# EAGLE library part LOG114 (library my-ti)
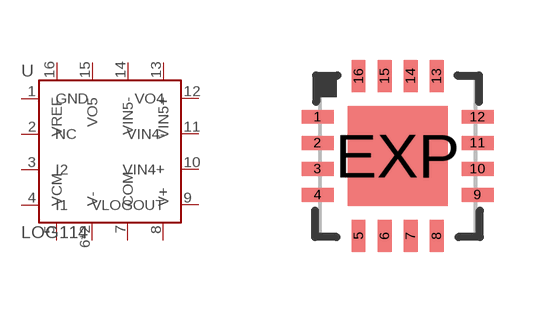
[diagram p3: symbol with the pads of QFN16; footprint QFN16]

Designator prefix -

## LOG114  [QFN16]
1  GND
2  NC
3  I2
4  I1
5  VCM
6  V-
7  COM
8  V+
9  VLOGOUT
10  VIN4+
11  VIN4-  pas
12  VO4
13  VIN5+
14  VIN5-
15  VO5
16  VREF
EXP  V-

## Footprint QFN16 (pad centres in mm)
smd 0.8 x 0.35: 1 -2,0.975; 2 -2,0.325; 3 -2,-0.325; 4 -2,-0.975; 9 2,-0.975; 10 2,-0.325; 11 2,0.325; 12 2,0.975
smd 0.35 x 0.8: 5 -0.975,-2; 6 -0.325,-2; 7 0.325,-2; 8 0.975,-2; 13 0.975,2; 14 0.325,2; 15 -0.325,2; 16 -0.975,2
smd 2.5 x 2.5: EXP 0,0